# Altium footprint library Driver.PcbLib: 25 footprints (part 2 of 2)
Each footprint in its own frame and in the unit in brackets; x right, y up, seen from the top. Pads: shape width x height; smd on the part's side, far side on the other; paste and mask are expansions set on the pad; w line width, h text height; cw(c..) or ccw(c..) is an arc to the next point about the centre after c.
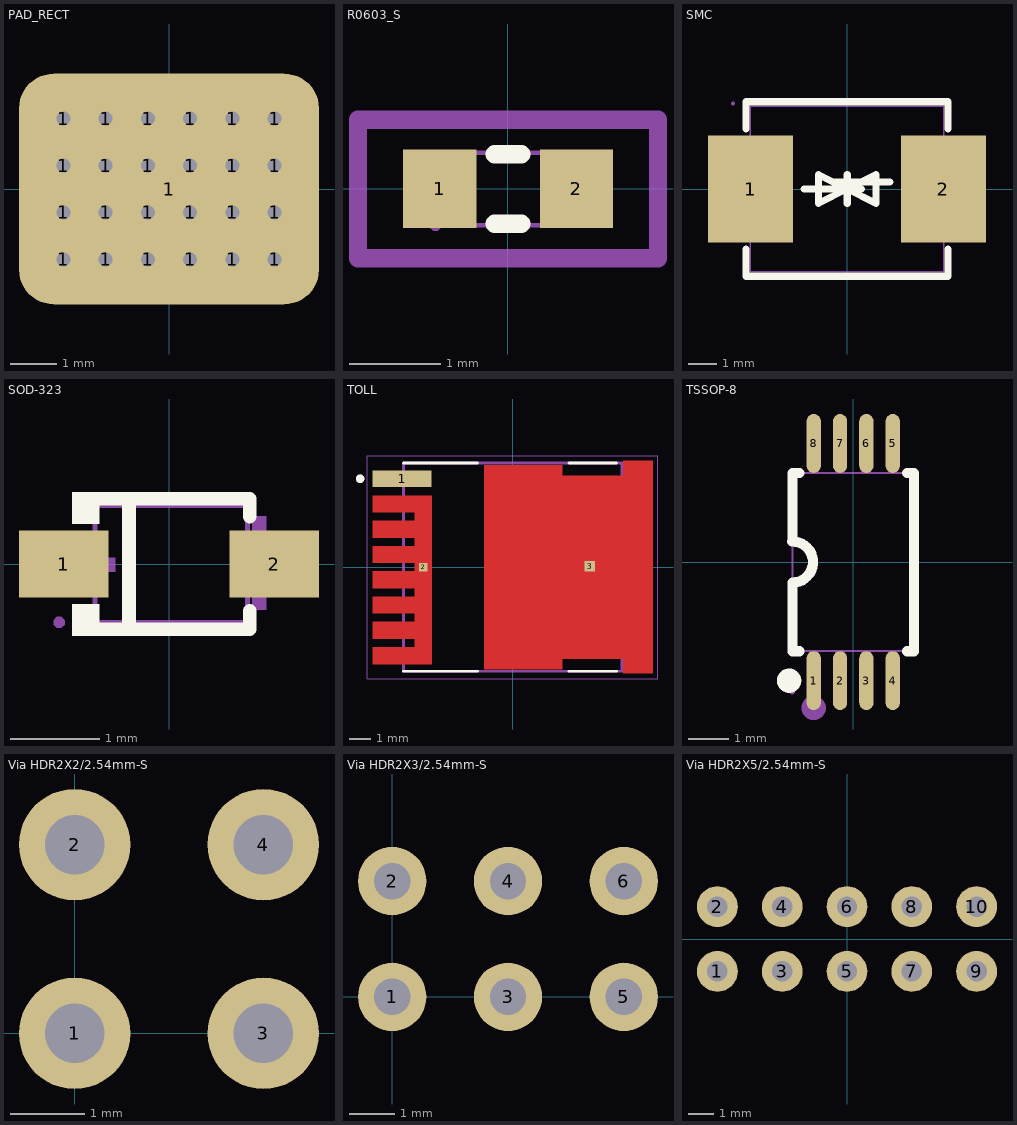
[diagram p1: the footprints below, top view; thin cyan lines are the x and y axes]

## PAD_RECT [mil]
pads (25):
  round 20 hole 12: 1(-90,-60) 1(-90,-20) 1(-90,20) 1(-90,60) 1(-54,-60) 1(-54,-20) 1(-54,20) 1(-54,60) 1(-18,-60) 1(-18,-20) 1(-18,20) 1(-18,60) 1(18,-60) 1(18,-20) 1(18,20) 1(18,60) 1(54,-60) 1(54,-20) 1(54,20) 1(54,60) 1(90,-60) 1(90,-20) 1(90,20) 1(90,60)
  rrect30% 255.91x196.85 all layers, no hole: 1(0,0)

## R0603_S [mil]
pads (2):
  rect 31.75x34.02 smd paste+0 mask+4: 1(-29.61,0) 2(29.7,0)
Top Overlay:
  lines w8: -5.63,-15.01 5.73,-15.01 ; -5.63,14.99 5.73,14.99
Mechanical 15:
  region: -29.09,-15.75 -29.09,-14.77 -30.47,-13.39 -32.43,-13.38 -33.81,-14.77 -33.81,-15.75 -33.81,-16.72 -32.43,-18.11 -30.47,-18.11 -29.09,-16.73 -29.09,-15.75
  region: -31.45,-15.75 -31.45,15.74 -19.64,15.74 -19.64,-15.75
  region: 31.54,-15.75 31.54,15.74 19.73,15.74 19.73,-15.75
  lines w2: -31.45,-15.75 -31.45,15.74 31.54,15.74 31.54,-15.75 -31.45,-15.75
  lines w8: -64.97,-30 -64.97,30 65.02,30 65.02,-30 -64.97,-30
3D body "RESC1608(0603).STEP": height 14.96, standoff 0, extent -31.5,-15.74 31.5,15.75

## SMC [mm]
pads (2):
  rect 3.03x3.82 smd: 1(-3.435,0) 2(3.435,0)
Top Overlay:
  lines w0.254: -3.6,-2.141 -3.6,-3.11 3.6,-3.11 3.6,-2.141 ; -3.6,2.141 -3.6,3.11 3.6,3.11 3.6,2.141 ; -1.524,0 0.508,0 ; -0.496,0.254 1.536,0.254 ; 0,-0.508 0,0.508 0,0 ; 0.012,0.508 0.012,-0.508 0.012,0 ; 0,0 -1.016,0.508 -1.016,-0.508 0,0 ; 0.012,0 1.028,0.508 1.028,-0.508 0.012,0
Mechanical 15:
  region: 2.812,1.525 3.952,1.525 3.952,-1.525 2.812,-1.525
  region: -3.949,1.525 -2.809,1.525 -2.809,-1.525 -3.949,-1.525
  region: -4.124,3.048 -4.124,3.023 -4.089,2.989 -4.039,2.989 -4.004,3.023 -4.004,3.048 -4.004,3.073 -4.039,3.107 -4.089,3.107 -4.124,3.073 -4.124,3.048
  lines w0.051: -3.45,-2.95 -3.45,2.95 3.45,2.95 3.45,-2.95 -3.45,-2.95
3D body "SMC.STEP": height 2.45, standoff 0.03, extent -3.953,-2.9 3.953,2.9

## SOD-323 [mm]
pads (2):
  rect 1x0.75 smd: 1(-1.173,0) 2(1.173,0)
Top Overlay:
  region: -0.775,-0.802 -0.775,-0.45 -1.08,-0.45 -1.08,-0.802
  region: -0.775,0.802 -0.775,0.45 -1.08,0.45 -1.08,0.802
  lines w0.152: -0.851,-0.726 0.901,-0.726 0.901,-0.52 ; -0.851,0.726 0.901,0.726 0.901,0.53 ; -0.447,-0.726 -0.447,0.726
Mechanical 6:
  region: 1.083,0.53 1.083,-0.51 0.927,-0.51 0.927,0.53
  region: 1.315,0.09 1.315,-0.066 0.691,-0.066 0.691,0.09
  region: -1.225,0.07 -1.225,-0.086 -0.601,-0.086 -0.601,0.07
Mechanical 15:
  region: -0.815,0.16 -0.815,-0.16 -0.935,-0.16 -0.935,0.16
  region: -0.925,0.16 -0.925,-0.16 -1.225,-0.16 -1.225,0.16
  region: 0.985,0.16 0.985,-0.16 0.865,-0.16 0.865,0.16
  region: 1.275,0.16 1.275,-0.16 0.975,-0.16 0.975,0.16
  region: -1.285,-0.65 -1.285,-0.675 -1.25,-0.71 -1.2,-0.71 -1.165,-0.675 -1.165,-0.65 -1.165,-0.625 -1.2,-0.59 -1.25,-0.59 -1.285,-0.625 -1.285,-0.65
  lines w0.051: -0.825,-0.65 -0.825,0.65 0.875,0.65 0.875,-0.65 -0.825,-0.65
3D body "SOD-323.STEP": height 1, standoff 0.04, extent -1.324,-0.65 1.324,0.65

## TOLL [mm]
pads (3):
  rect 2.8x0.8 smd paste-2: 1(-5.25,4.2)
  rect 0.4x0.4 smd paste-1 mask+0: 2(-4.25,0)
  rect 0.5x0.5 smd paste-1 mask+0: 3(3.665,0.05)
Top Layer:
  region: -3.85,-4.6 -6.65,-4.6 -6.65,-3.8 -4.65,-3.8 -4.65,-3.4 -6.65,-3.4 -6.65,-2.6 -4.65,-2.6 -4.65,-2.2 -6.65,-2.2 -6.65,-1.4 -4.65,-1.4 -4.65,-1 -6.65,-1 -6.65,-0.2 -4.65,-0.2 -4.65,0.2 -6.65,0.2 -6.65,1 -4.65,1 -4.65,1.4 -6.65,1.4 -6.65,2.2 -4.65,2.2 -4.65,2.6 -6.65,2.6 -6.65,3.4 -3.85,3.4
  region: 6.65,-5.05 5.25,-5.05 5.25,-4.35 2.35,-4.35 2.35,-4.85 -1.35,-4.85 -1.35,4.85 2.35,4.85 2.35,4.35 5.25,4.35 5.25,5.05 6.65,5.05
Top Overlay:
  circle w0.2: c-7.25,4.2 r0.1
  lines w0.127: -5.188,-4.95 -1.67,-4.95 ; -5.188,4.95 -1.67,4.95 ; 2.67,-4.95 4.93,-4.95 ; 2.67,4.95 4.93,4.95
Top Paste:
  circle w0.5: c-0.17,4.2 r0.25
  circle w0.5: c-0.17,3 r0.25
  circle w0.5: c-0.17,1.8 r0.25
  circle w0.5: c-0.17,0.6 r0.25
  circle w0.5: c-0.17,-0.6 r0.25
  circle w0.5: c-0.17,-1.8 r0.25
  circle w0.5: c-0.17,-3 r0.25
  circle w0.5: c-0.17,-4.2 r0.25
  circle w0.5: c1.03,4.2 r0.25
  circle w0.5: c1.03,3 r0.25
  circle w0.5: c1.03,1.8 r0.25
  circle w0.5: c1.03,0.6 r0.25
  circle w0.5: c1.03,-0.6 r0.25
  circle w0.5: c1.03,-1.8 r0.25
  circle w0.5: c1.03,-3 r0.25
  circle w0.5: c1.03,-4.2 r0.25
  circle w0.5: c2.23,3 r0.25
  circle w0.5: c2.23,1.8 r0.25
  circle w0.5: c2.23,0.6 r0.25
  circle w0.5: c2.23,-0.6 r0.25
  circle w0.5: c2.23,-1.8 r0.25
  circle w0.5: c2.23,-3 r0.25
  circle w0.5: c3.43,3 r0.25
  circle w0.5: c3.43,1.8 r0.25
  circle w0.5: c3.43,0.6 r0.25
  circle w0.5: c3.43,-0.6 r0.25
  circle w0.5: c3.43,-1.8 r0.25
  circle w0.5: c3.43,-3 r0.25
  circle w0.5: c4.63,3 r0.25
  circle w0.5: c4.63,1.8 r0.25
  circle w0.5: c4.63,0.6 r0.25
  circle w0.5: c4.63,-0.6 r0.25
  circle w0.5: c4.63,-1.8 r0.25
  circle w0.5: c4.63,-3 r0.25
  circle w0.5: c5.83,4.2 r0.25
  circle w0.5: c5.83,3 r0.25
  circle w0.5: c5.83,1.8 r0.25
  circle w0.5: c5.83,0.6 r0.25
  circle w0.5: c5.83,-0.6 r0.25
  circle w0.5: c5.83,-1.8 r0.25
  circle w0.5: c5.83,-3 r0.25
  circle w0.5: c5.83,-4.2 r0.25
  region: -3.95,-4.55 -6.55,-4.55 -6.55,-3.85 -3.95,-3.85
  region: -3.95,-3.35 -6.55,-3.35 -6.55,-2.65 -3.95,-2.65
  region: -3.95,-2.15 -6.55,-2.15 -6.55,-1.45 -3.95,-1.45
  region: -3.95,-0.95 -6.55,-0.95 -6.55,-0.25 -3.95,-0.25
  region: -3.95,0.25 -6.55,0.25 -6.55,0.95 -3.95,0.95
  region: -3.95,1.45 -6.55,1.45 -6.55,2.15 -3.95,2.15
  region: -3.95,2.65 -6.55,2.65 -6.55,3.35 -3.95,3.35
  region: -3.95,3.85 -6.55,3.85 -6.55,4.55 -3.95,4.55
Top Solder:
  region: 6.75,-5.15 5.15,-5.15 5.15,-4.45 2.45,-4.45 2.45,-4.95 -1.45,-4.95 -1.45,4.95 2.45,4.95 2.45,4.45 5.15,4.45 5.15,5.15 6.75,5.15
  region: -3.75,-4.7 -6.75,-4.7 -6.75,-3.7 -4.75,-3.7 -4.75,-3.5 -6.75,-3.5 -6.75,-2.5 -4.75,-2.5 -4.75,-2.3 -6.75,-2.3 -6.75,-1.3 -4.75,-1.3 -4.75,-1.1 -6.75,-1.1 -6.75,-0.1 -4.75,-0.1 -4.75,0.1 -6.75,0.1 -6.75,1.1 -4.75,1.1 -4.75,1.3 -6.75,1.3 -6.75,2.3 -4.75,2.3 -4.75,2.5 -6.75,2.5 -6.75,3.5 -3.75,3.5
Mechanical 13:
  circle w0.2: c-7.25,4.2 r0.1
  lines w0.127: -5.188,-4.95 5.188,-4.95 5.188,4.95 -5.188,4.95 -5.188,-4.95
Mechanical 15:
  lines w0.05: -6.9,-5.3 6.9,-5.3 6.9,5.3 -6.9,5.3 -6.9,-5.3
3D body "TOLL-8.STEP": height 2.32, standoff 0, extent -5.84,-4.95 5.84,4.95

## TSSOP-8 [mil]
pads (8):
  oval 13.9x57.24 smd: 1(-38.39,-115.24) 2(-12.79,-115.24) 3(12.8,-115.24) 4(38.39,-115.24) 5(38.39,115.24) 6(12.8,115.24) 7(-12.79,115.24) 8(-38.39,115.24)
Top Overlay:
  circle w11.81: c-62.26,-115.24 r5.91
  lines w10: -59.1,20 cw(c-59.08,0) -59.05,-20 -59.05,-86.61 -52.28,-86.61 ; -59.05,20 -59.05,86.61 -52.28,86.61 ; 52.28,-86.61 59.05,-86.61 59.05,86.61 52.28,86.61
Mechanical 6:
  circle w11.81: c-38.39,-141.73 r5.91
Mechanical 15:
  region: 34.05,106.69 34.05,86.22 42.72,86.22 42.72,106.69
  region: 34.05,125.98 34.05,106.3 42.72,106.3 42.72,125.98
  region: 8.46,106.69 8.46,86.22 17.13,86.22 17.13,106.69
  region: 8.46,125.98 8.46,106.3 17.13,106.3 17.13,125.98
  region: -17.13,106.69 -17.13,86.22 -8.46,86.22 -8.46,106.69
  region: -17.13,125.98 -17.13,106.3 -8.46,106.3 -8.46,125.98
  region: -42.72,106.69 -42.72,86.22 -34.05,86.22 -34.05,106.69
  region: -42.72,125.98 -42.72,106.3 -34.05,106.3 -34.05,125.98
  region: 34.05,-106.69 34.05,-86.22 42.72,-86.22 42.72,-106.69
  region: 34.05,-125.98 34.05,-106.3 42.72,-106.3 42.72,-125.98
  region: 8.46,-106.69 8.46,-86.22 17.13,-86.22 17.13,-106.69
  region: 8.46,-125.98 8.46,-106.3 17.13,-106.3 17.13,-125.98
  region: -17.13,-106.69 -17.13,-86.22 -8.46,-86.22 -8.46,-106.69
  region: -17.13,-125.98 -17.13,-106.3 -8.46,-106.3 -8.46,-125.98
  region: -42.72,-106.69 -42.72,-86.22 -34.05,-86.22 -34.05,-106.69
  region: -42.72,-125.98 -42.72,-106.3 -34.05,-106.3 -34.05,-125.98
  region: -56.69,-125.98 -56.69,-125.01 -58.08,-123.62 -60.04,-123.62 -61.42,-125.01 -61.42,-125.98 -61.42,-126.96 -60.04,-128.35 -58.08,-128.35 -56.69,-126.96 -56.69,-125.98
  lines w2: -59.05,-86.61 59.05,-86.61 59.05,86.61 -59.05,86.61 -59.05,-86.61
3D body "User Library-TSS0P8.STEP": height 43, standoff 0, extent -55.77,-123.62 62.34,123.62

## Via HDR2X2/2.54mm-S [mm] "Connector; Header; 3x2 Position"
pads (4):
  round 1.5 hole 0.8: 1(0,0) 2(0,2.54) 3(2.54,0) 4(2.54,2.54)

## Via HDR2X3/2.54mm-S [mm] "Connector; Header; 3x2 Position"
pads (6):
  round 1.5 hole 0.8: 1(0,0) 2(0,2.54) 3(2.54,0) 4(2.54,2.54) 5(5.08,0) 6(5.08,2.54)

## Via HDR2X5/2.54mm-S [mm] "双排排针，5x2脚"
pads (10):
  round 1.6 hole 0.8: 1(-5.08,-1.27) 2(-5.08,1.27) 3(-2.54,-1.27) 4(-2.54,1.27) 5(0,-1.27) 6(0,1.27) 7(2.54,-1.27) 8(2.54,1.27) 9(5.08,-1.27) 10(5.08,1.27)